# EAGLE library part SN74HC595N (library LED_Cube_v5)
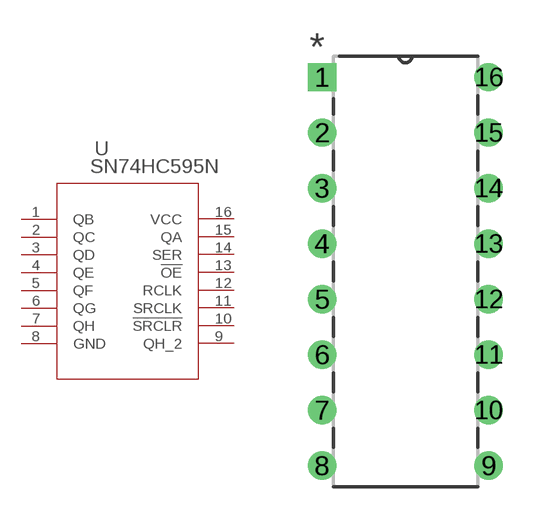
[diagram p4: symbol with the pads of N16; footprint N16]

Designator prefix U

## SN74HC595N (DATASHEET_URL: http://www.ti.com/lit/gpn/SN74HC595; DESCRIPTION: 8-Bit Shift Registers With 3-State Output Registers; FAMILY_NAME: SHIFT REGISTER; GENERIC_PART_NUMBER: SN74HC595; INDUSTRY_STD_PKG_TYPE: PDIP; MANUFACTURER: Texas Instruments; PACKAGE_DESIGNATOR: N; PIN_COUNT: 16)  [N16]
1  QB  out
2  QC  out
3  QD  out
4  QE  out
5  QF  out
6  QG  out
7  QH  out
8  GND  pwr
9  QH_2  out
10  !SRCLR  in
11  SRCLK  in
12  RCLK  in
13  !OE  in
14  SER  in
15  QA  out
16  VCC  pwr

## Footprint N16 (pad centres in mm)
drill 0.787 pad 1.295 square: 1 -3.81,8.89
drill 0.787 pad 1.295: 2 -3.81,6.35; 3 -3.81,3.81; 4 -3.81,1.27; 5 -3.81,-1.27; 6 -3.81,-3.81; 7 -3.81,-6.35; 8 -3.81,-8.89; 9 3.81,-8.89; 10 3.81,-6.35; 11 3.81,-3.81; 12 3.81,-1.27; 13 3.81,1.27; 14 3.81,3.81; 15 3.81,6.35; 16 3.81,8.89